# Altium footprint library P5采集核心_KKK.PcbLib: 34 footprints (part 1 of 3)
Each footprint in its own frame and in the unit in brackets; x right, y up, seen from the top. Pads: shape width x height; smd on the part's side, far side on the other; paste and mask are expansions set on the pad; w line width, h text height; cw(c..) or ccw(c..) is an arc to the next point about the centre after c.
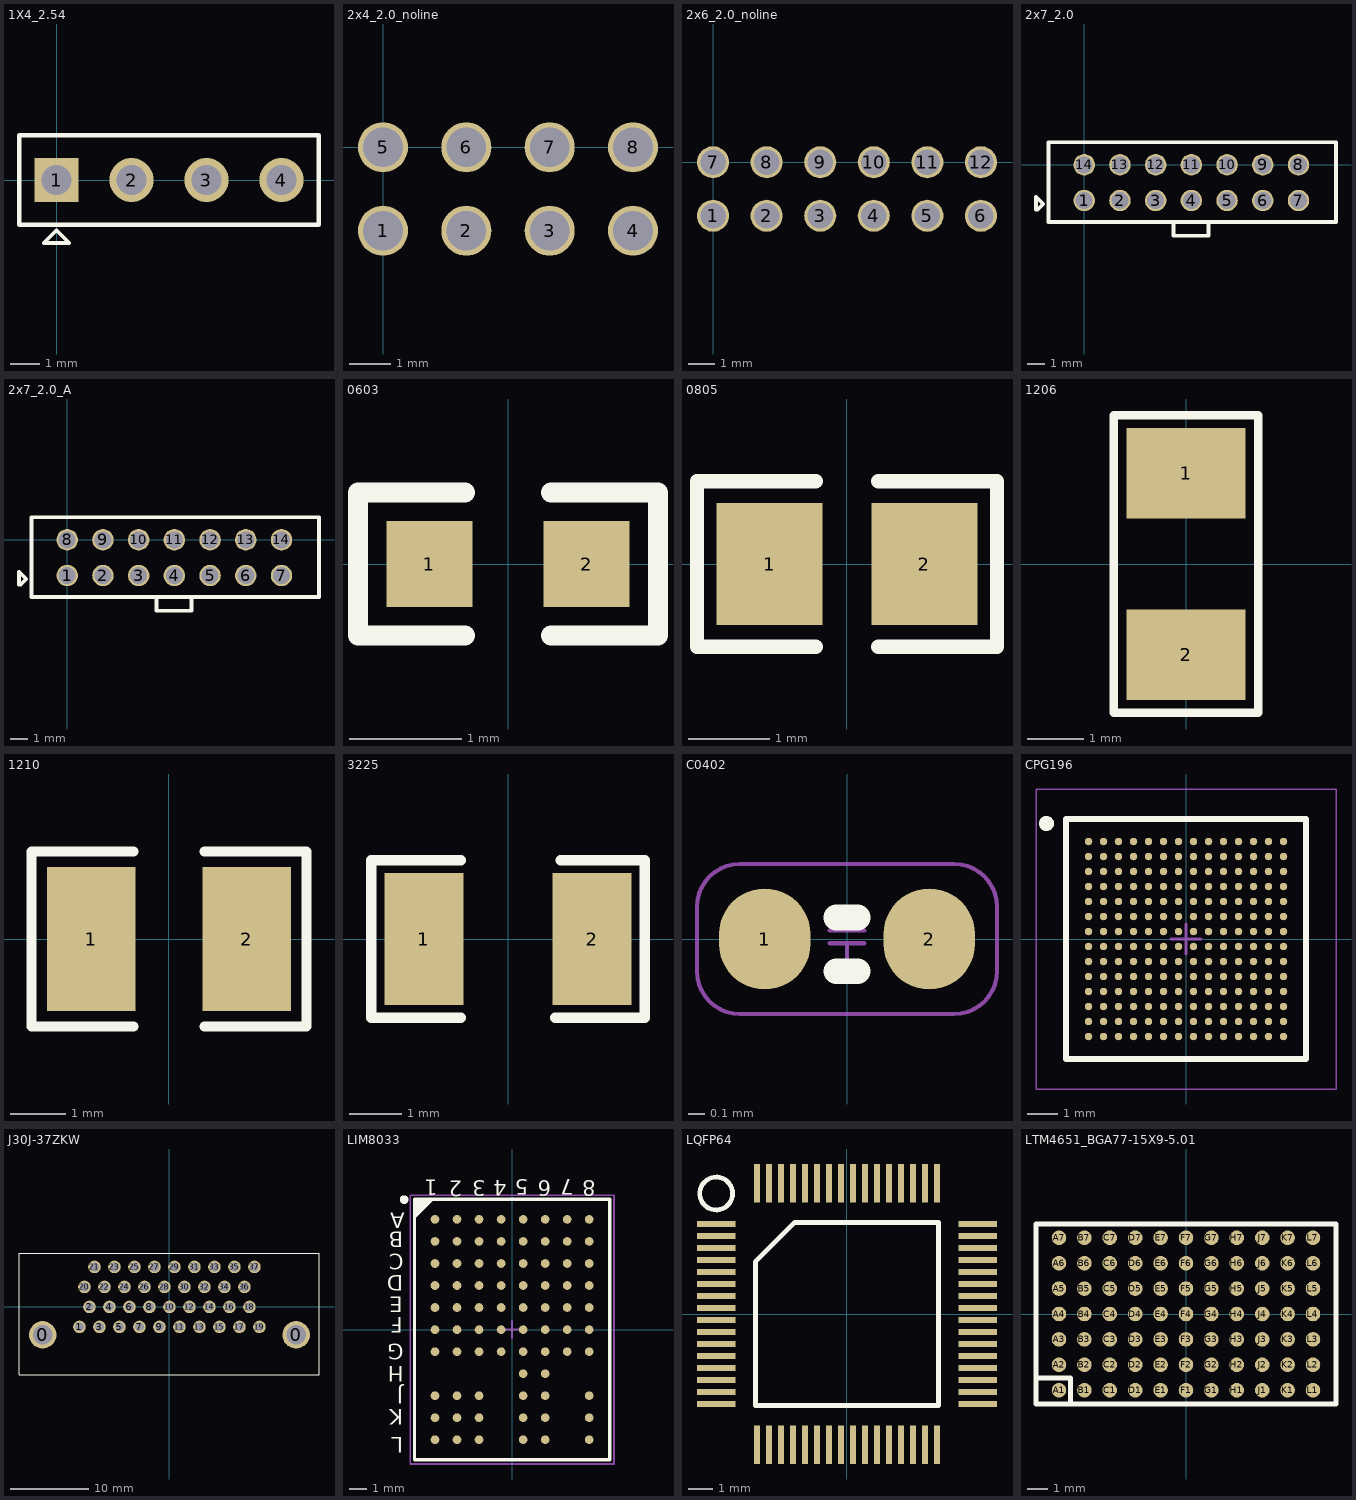
[diagram p0: the footprints below, top view; thin cyan lines are the x and y axes]

## 1X4_2.54 [mm]
height 3.2
pads (4):
  rect 1.5x1.5 hole 1: 1(0,0)
  round 1.5 hole 1: 2(2.54,0) 3(5.08,0) 4(7.62,0)
Top Overlay:
  lines w0.127: -0.432,-2.134 0.432,-2.134 0,-1.702 -0.432,-2.134
  lines w0.152: -1.27,-1.524 8.89,-1.524 8.89,1.524 -1.27,1.524 -1.27,-1.524

## 2x4_2.0_noline [mm]
pads (8):
  round 1.2 hole 0.95: 1(0,-2) 2(2,-2) 3(4,-2) 4(6,-2) 5(0,0) 6(2,0) 7(4,0) 8(6,0)

## 2x6_2.0_noline [mm]
pads (12):
  round 1.2 hole 0.95: 1(0,-2) 2(2,-2) 3(4,-2) 4(6,-2) 5(8,-2) 6(10,-2) 7(0,0) 8(2,0) 9(4,0) 10(6,0) 11(8,0) 12(10,0)

## 2x7_2.0 [mm]
height 3.2
pads (14):
  round 1.2 hole 0.95: 1(0,-2) 2(2,-2) 3(4,-2) 4(6,-2) 5(8,-2) 6(10,-2) 7(12,-2) 8(12,0) 9(10,0) 10(8,0) 11(6,0) 12(4,0) 13(2,0) 14(0,0)
Top Overlay:
  lines w0.2: -2.7,-1.8 -2.3,-2.2 -2.608,-2.508 ; 5,-3.219 5,-3.981 6.962,-3.981 6.962,-3.219
  lines w0.203: -2.7,-2.508 -2.7,-1.8 ; -2,-3.2 14.1,-3.2 14.1,1.27 -2,1.27 -2,-3.2

## 2x7_2.0_A [mm]
pads (14):
  round 1.2 hole 0.95: 1(0,-2) 2(2,-2) 3(4,-2) 4(6,-2) 5(8,-2) 6(10,-2) 7(12,-2) 8(0,0) 9(2,0) 10(4,0) 11(6,0) 12(8,0) 13(10,0) 14(12,0)
Top Overlay:
  lines w0.2: -2.7,-1.8 -2.3,-2.2 -2.608,-2.508 ; 5,-3.219 5,-3.981 6.962,-3.981 6.962,-3.219
  lines w0.203: -2.7,-2.508 -2.7,-1.8 ; -2,-3.2 -2,1.27 14.1,1.27 14.1,-3.2 -2,-3.2

## 0603 [mil]
pads (2):
  rect 30x30 smd: 1(-27.5,0) 2(27.5,0)
Top Overlay:
  lines w7: -15,-25 -52.5,-25 -52.5,25 -15,25 ; 15,-25 52.5,-25 52.5,25 15,25

## 0805 [mm]
pads (2):
  rect 1.3x1.5 smd: 1(-0.95,0) 2(0.95,0)
Top Overlay:
  lines w0.178: -0.381,-1.019 -1.841,-1.019 -1.841,1.019 -0.381,1.019 ; 0.381,-1.019 1.842,-1.019 1.842,1.019 0.381,1.019

## 1206 [mm]
height 3.2
pads (2):
  rect 2.1x1.6 smd: 1(0,1.6) 2(0,-1.6)
Top Overlay:
  lines w0.15: -1.275,-2.625 -1.275,2.225 -1.275,2.625 1.275,2.625 1.275,-2.625 -1.275,-2.625

## 1210 [mm]
pads (2):
  rect 1.6x2.6 smd: 1(-1.4,0) 2(1.4,0)
Top Overlay:
  lines w0.178: -0.635,-1.575 -2.476,-1.575 -2.476,1.575 -0.635,1.575 ; 0.635,-1.575 2.476,-1.575 2.476,1.575 0.635,1.575

## 3225 [mm]
height 3.2
pads (2):
  rect 1.5x2.5 smd: 1(-1.6,0) 2(1.6,0)
Top Overlay:
  lines w0.2: -0.9,-1.5 -2.6,-1.5 -2.6,1.5 -2.3,1.5 -0.9,1.5 ; 0.9,-1.5 2.6,-1.5 2.6,1.5 1,1.5

## C0402 [mm]
pads (2):
  oval 0.54x0.6 smd: 1(-0.487,0) 2(0.487,0)
Top Overlay:
  lines w0.152: -0.064,-0.191 0.064,-0.191 ; -0.064,0.127 0.064,0.127
Mechanical 8:
  lines w0.025: -0.102,-0.025 0.102,-0.025 ; -0.102,0.051 0.102,0.051 ; 0,-0.152 0,-0.025 ; 0,0.051 0,0.178 ; -0.889,-0.19 ccw(c-0.635,-0.191) -0.635,-0.445 0.635,-0.445 ccw(c0.635,-0.191) 0.889,-0.191 0.889,0.191 ccw(c0.635,0.191) 0.635,0.445 -0.635,0.445 ccw(c-0.635,0.191) -0.889,0.191 -0.889,-0.191

## CPG196 [mm] "BGA, 196-Leads, Body 8x8mm, Pitch 0.5mm"
height 1.1
pads (196):
  round 0.25 smd: A1(-3.25,3.25) A2(-2.75,3.25) A3(-2.25,3.25) A4(-1.75,3.25) A5(-1.25,3.25) A6(-0.75,3.25) A7(-0.25,3.25) A8(0.25,3.25) A9(0.75,3.25) A10(1.25,3.25) A11(1.75,3.25) A12(2.25,3.25) A13(2.75,3.25) A14(3.25,3.25) B1(-3.25,2.75) B2(-2.75,2.75) B3(-2.25,2.75) B4(-1.75,2.75) B5(-1.25,2.75) B6(-0.75,2.75) B7(-0.25,2.75) B8(0.25,2.75) B9(0.75,2.75) B10(1.25,2.75) B11(1.75,2.75) B12(2.25,2.75) B13(2.75,2.75) B14(3.25,2.75) C1(-3.25,2.25) C2(-2.75,2.25) C3(-2.25,2.25) C4(-1.75,2.25) C5(-1.25,2.25) C6(-0.75,2.25) C7(-0.25,2.25) C8(0.25,2.25) C9(0.75,2.25) C10(1.25,2.25) C11(1.75,2.25) C12(2.25,2.25) C13(2.75,2.25) C14(3.25,2.25) D1(-3.25,1.75) D2(-2.75,1.75) D3(-2.25,1.75) D4(-1.75,1.75) D5(-1.25,1.75) D6(-0.75,1.75) D7(-0.25,1.75) D8(0.25,1.75) D9(0.75,1.75) D10(1.25,1.75) D11(1.75,1.75) D12(2.25,1.75) D13(2.75,1.75) D14(3.25,1.75) E1(-3.25,1.25) E2(-2.75,1.25) E3(-2.25,1.25) E4(-1.75,1.25) E5(-1.25,1.25) E6(-0.75,1.25) E7(-0.25,1.25) E8(0.25,1.25) E9(0.75,1.25) E10(1.25,1.25) E11(1.75,1.25) E12(2.25,1.25) E13(2.75,1.25) E14(3.25,1.25) F1(-3.25,0.75) F2(-2.75,0.75) F3(-2.25,0.75) F4(-1.75,0.75) F5(-1.25,0.75) F6(-0.75,0.75) F7(-0.25,0.75) F8(0.25,0.75) F9(0.75,0.75) F10(1.25,0.75) F11(1.75,0.75) F12(2.25,0.75) F13(2.75,0.75) F14(3.25,0.75) G1(-3.25,0.25) G2(-2.75,0.25) G3(-2.25,0.25) G4(-1.75,0.25) G5(-1.25,0.25) G6(-0.75,0.25) G7(-0.25,0.25) G8(0.25,0.25) G9(0.75,0.25) G10(1.25,0.25) G11(1.75,0.25) G12(2.25,0.25) G13(2.75,0.25) G14(3.25,0.25) H1(-3.25,-0.25) H2(-2.75,-0.25) H3(-2.25,-0.25) H4(-1.75,-0.25) H5(-1.25,-0.25) H6(-0.75,-0.25) H7(-0.25,-0.25) H8(0.25,-0.25) H9(0.75,-0.25) H10(1.25,-0.25) H11(1.75,-0.25) H12(2.25,-0.25) H13(2.75,-0.25) H14(3.25,-0.25) J1(-3.25,-0.75) J2(-2.75,-0.75) J3(-2.25,-0.75) J4(-1.75,-0.75) J5(-1.25,-0.75) J6(-0.75,-0.75) J7(-0.25,-0.75) J8(0.25,-0.75) J9(0.75,-0.75) J10(1.25,-0.75) J11(1.75,-0.75) J12(2.25,-0.75) J13(2.75,-0.75) J14(3.25,-0.75) K1(-3.25,-1.25) K2(-2.75,-1.25) K3(-2.25,-1.25) K4(-1.75,-1.25) K5(-1.25,-1.25) K6(-0.75,-1.25) K7(-0.25,-1.25) K8(0.25,-1.25) K9(0.75,-1.25) K10(1.25,-1.25) K11(1.75,-1.25) K12(2.25,-1.25) K13(2.75,-1.25) K14(3.25,-1.25) L1(-3.25,-1.75) L2(-2.75,-1.75) L3(-2.25,-1.75) L4(-1.75,-1.75) L5(-1.25,-1.75) L6(-0.75,-1.75) L7(-0.25,-1.75) L8(0.25,-1.75) L9(0.75,-1.75) L10(1.25,-1.75) L11(1.75,-1.75) L12(2.25,-1.75) L13(2.75,-1.75) L14(3.25,-1.75) M1(-3.25,-2.25) M2(-2.75,-2.25) M3(-2.25,-2.25) M4(-1.75,-2.25) M5(-1.25,-2.25) M6(-0.75,-2.25) M7(-0.25,-2.25) M8(0.25,-2.25) M9(0.75,-2.25) M10(1.25,-2.25) M11(1.75,-2.25) M12(2.25,-2.25) M13(2.75,-2.25) M14(3.25,-2.25) N1(-3.25,-2.75) N2(-2.75,-2.75) N3(-2.25,-2.75) N4(-1.75,-2.75) N5(-1.25,-2.75) N6(-0.75,-2.75) N7(-0.25,-2.75) N8(0.25,-2.75) N9(0.75,-2.75) N10(1.25,-2.75) N11(1.75,-2.75) N12(2.25,-2.75) N13(2.75,-2.75) N14(3.25,-2.75) P1(-3.25,-3.25) P2(-2.75,-3.25) P3(-2.25,-3.25) P4(-1.75,-3.25) P5(-1.25,-3.25) P6(-0.75,-3.25) P7(-0.25,-3.25) P8(0.25,-3.25) P9(0.75,-3.25) P10(1.25,-3.25) P11(1.75,-3.25) P12(2.25,-3.25) P13(2.75,-3.25) P14(3.25,-3.25)
Top Overlay:
  circle w0.25: c-4.65,3.85 r0.125
  lines w0.2: -4,-4 4,-4 4,4 -4,4 -4,-4
Mechanical 13:
  lines w0.1: -4,-4 4,-4 4,4 -4,4 -4,-4
Mechanical 15:
  lines w0.05: -5,-5 5,-5 5,5 -5,5 -5,-5
  lines w0.1: -0.5,0 0.5,0 ; 0,-0.5 0,0.5
3D body: height 1.1, standoff 0.15, extent -4,-4 4,4

## J30J-37ZKW [mm]
pads (39):
  round 3.5 hole 2.5: 0(-16.1,-3.54) 0(16.1,-3.54)
  round 1.6 hole 1.1: 1(-11.43,-2.54) 2(-10.16,0) 3(-8.89,-2.54) 4(-7.62,0) 5(-6.35,-2.54) 6(-5.08,0) 7(-3.81,-2.54) 8(-2.54,0) 9(-1.27,-2.54) 10(0,0) 11(1.27,-2.54) 12(2.54,0) 13(3.81,-2.54) 14(5.08,0) 15(6.35,-2.54) 16(7.62,0) 17(8.89,-2.54) 18(10.16,0) 19(11.43,-2.54) 20(-10.795,2.54) 21(-9.525,5.08) 22(-8.255,2.54) 23(-6.985,5.08) 24(-5.715,2.54) 25(-4.445,5.08) 26(-3.175,2.54) 27(-1.905,5.08) 28(-0.635,2.54) 29(0.635,5.08) 30(1.905,2.54) 31(3.175,5.08) 32(4.445,2.54) 33(5.715,5.08) 34(6.985,2.54) 35(8.255,5.08) 36(9.525,2.54) 37(10.795,5.08)
Top Overlay:
  lines w0.127: -19.115,-8.6 19,-8.6 19,6.8 -19.115,6.8 -19.115,-8.6

## LIM8033 [mm]
height 3.2
pads (76):
  round 0.5 smd: A1(-4.445,6.35) A2(-3.175,6.35) A3(-1.905,6.35) A4(-0.635,6.35) A5(0.635,6.35) A6(1.905,6.35) A7(3.175,6.35) A8(4.445,6.35) B1(-4.445,5.08) B2(-3.175,5.08) B3(-1.905,5.08) B4(-0.635,5.08) B5(0.635,5.08) B6(1.905,5.08) B7(3.175,5.08) B8(4.445,5.08) C1(-4.445,3.81) C2(-3.175,3.81) C3(-1.905,3.81) C4(-0.635,3.81) C5(0.635,3.81) C6(1.905,3.81) C7(3.175,3.81) C8(4.445,3.81) D1(-4.445,2.54) D2(-3.175,2.54) D3(-1.905,2.54) D4(-0.635,2.54) D5(0.635,2.54) D6(1.905,2.54) D7(3.175,2.54) D8(4.445,2.54) E1(-4.445,1.27) E2(-3.175,1.27) E3(-1.905,1.27) E4(-0.635,1.27) E5(0.635,1.27) E6(1.905,1.27) E7(3.175,1.27) E8(4.445,1.27) F1(-4.445,0) F2(-3.175,0) F3(-1.905,0) F4(-0.635,0) F5(0.635,0) F6(1.905,0) F7(3.175,0) F8(4.445,0) G1(-4.445,-1.27) G2(-3.175,-1.27) G3(-1.905,-1.27) G4(-0.635,-1.27) G5(0.635,-1.27) G6(1.905,-1.27) G7(3.175,-1.27) G8(4.445,-1.27) H5(0.635,-2.54) H6(1.905,-2.54) J1(-4.445,-3.81) J2(-3.175,-3.81) J3(-1.905,-3.81) J5(0.635,-3.81) J6(1.905,-3.81) J8(4.445,-3.81) K1(-4.445,-5.08) K2(-3.175,-5.08) K3(-1.905,-5.08) K5(0.635,-5.08) K6(1.905,-5.08) K8(4.445,-5.08) L1(-4.445,-6.35) L2(-3.175,-6.35) L3(-1.905,-6.35) L5(0.635,-6.35) L6(1.905,-6.35) L8(4.445,-6.35)
Top Overlay:
  circle w0.25: c-6.221,7.493 r0.125
  region: -4.625,7.5 -5.625,6.5 -5.625,7.5
  lines w0.2: -5.625,6.5 -4.625,7.5 ; -5.625,-7.5 5.625,-7.5 5.625,7.5 -5.625,7.5 -5.625,-7.5
  text "A" at -6.184,6.733 h0.89
  text "B" at -6.263,5.635 h0.89
  text "C" at -6.231,4.364 h0.89
  text "D" at -6.278,3.14 h0.89
  text "E" at -6.31,1.9 h0.89
  text "F" at -6.31,0.708 h0.89
  text "G" at -6.247,-0.814 h0.89
  text "H" at -6.231,-2.101 h0.89
  text "J" at -6.263,-3.387 h0.89
  text "K" at -6.278,-4.596 h0.89
  text "L" at -6.278,-6.196 h0.89
  text "1" at -4.285,8.639 h0.89
  text "2" at -2.886,8.588 h0.89
  text "3" at -1.521,8.622 h0.89
  text "4" at -0.308,8.622 h0.89
  text "5" at 0.923,8.656 h0.89
  text "6" at 2.254,8.622 h0.89
  text "7" at 3.569,8.656 h0.89
  text "8" at 4.816,8.622 h0.89
Mechanical 13:
  lines w0.1: -5.625,-7.5 5.625,-7.5 5.625,7.5 -5.625,7.5 -5.625,-7.5
Mechanical 15:
  lines w0.1: -0.5,0 0.5,0 ; 0,-0.5 0,0.5 ; -5.875,-7.75 5.875,-7.75 5.875,7.75 -5.875,7.75 -5.875,-7.75
3D body: height 4.92, standoff 0.6, extent -5.625,-7.5 5.625,7.5

## LQFP64 [mm]
height 3.2
pads (64):
  rect 1.6x0.254 smd: 1(-5.45,3.75) 2(-5.45,3.25) 3(-5.45,2.75) 4(-5.45,2.25) 5(-5.45,1.75) 6(-5.45,1.25) 7(-5.45,0.75) 8(-5.45,0.25) 9(-5.45,-0.25) 10(-5.45,-0.75) 11(-5.45,-1.25) 12(-5.45,-1.75) 13(-5.45,-2.25) 14(-5.45,-2.75) 15(-5.45,-3.25) 16(-5.45,-3.75) 33(5.45,-3.75) 34(5.45,-3.25) 35(5.45,-2.75) 36(5.45,-2.25) 37(5.45,-1.75) 38(5.45,-1.25) 39(5.45,-0.75) 40(5.45,-0.25) 41(5.45,0.25) 42(5.45,0.75) 43(5.45,1.25) 44(5.45,1.75) 45(5.45,2.25) 46(5.45,2.75) 47(5.45,3.25) 48(5.45,3.75)
  rect 0.254x1.6 smd: 17(-3.75,-5.45) 18(-3.25,-5.45) 19(-2.75,-5.45) 20(-2.25,-5.45) 21(-1.75,-5.45) 22(-1.25,-5.45) 23(-0.75,-5.45) 24(-0.25,-5.45) 25(0.25,-5.45) 26(0.75,-5.45) 27(1.25,-5.45) 28(1.75,-5.45) 29(2.25,-5.45) 30(2.75,-5.45) 31(3.25,-5.45) 32(3.75,-5.45) 49(3.75,5.45) 50(3.25,5.45) 51(2.75,5.45) 52(2.25,5.45) 53(1.75,5.45) 54(1.25,5.45) 55(0.75,5.45) 56(0.25,5.45) 57(-0.25,5.45) 58(-0.75,5.45) 59(-1.25,5.45) 60(-1.75,5.45) 61(-2.25,5.45) 62(-2.75,5.45) 63(-3.25,5.45) 64(-3.75,5.45)
Top Overlay:
  circle w0.2: c-5.45,5.02 r0.684
  lines w0.2: -3.815,-3.815 3.815,-3.815 3.815,3.815 -2.18,3.815 -3.815,2.18 -3.815,-3.815

## LTM4651_BGA77-15X9-5.01 [mm]
height 3.2
pads (77):
  round 0.73 smd: A1(-6.35,-3.81) A2(-6.35,-2.54) A3(-6.35,-1.27) A4(-6.35,0) A5(-6.35,1.27) A6(-6.35,2.54) A7(-6.35,3.81) B1(-5.08,-3.81) B2(-5.08,-2.54) B3(-5.08,-1.27) B4(-5.08,0) B5(-5.08,1.27) B6(-5.08,2.54) B7(-5.08,3.81) C1(-3.81,-3.81) C2(-3.81,-2.54) C3(-3.81,-1.27) C4(-3.81,0) C5(-3.81,1.27) C6(-3.81,2.54) C7(-3.81,3.81) D1(-2.54,-3.81) D2(-2.54,-2.54) D3(-2.54,-1.27) D4(-2.54,0) D5(-2.54,1.27) D6(-2.54,2.54) D7(-2.54,3.81) E1(-1.27,-3.81) E2(-1.27,-2.54) E3(-1.27,-1.27) E4(-1.27,0) E5(-1.27,1.27) E6(-1.27,2.54) E7(-1.27,3.81) F1(0,-3.81) F2(0,-2.54) F3(0,-1.27) F4(0,0) F5(0,1.27) F6(0,2.54) F7(0,3.81) G1(1.27,-3.81) G2(1.27,-2.54) G3(1.27,-1.27) G4(1.27,0) G5(1.27,1.27) G6(1.27,2.54) G7(1.27,3.81) H1(2.54,-3.81) H2(2.54,-2.54) H3(2.54,-1.27) H4(2.54,0) H5(2.54,1.27) H6(2.54,2.54) H7(2.54,3.81) J1(3.81,-3.81) J2(3.81,-2.54) J3(3.81,-1.27) J4(3.81,0) J5(3.81,1.27) J6(3.81,2.54) J7(3.81,3.81) K1(5.08,-3.81) K2(5.08,-2.54) K3(5.08,-1.27) K4(5.08,0) K5(5.08,1.27) K6(5.08,2.54) K7(5.08,3.81) L1(6.35,-3.81) L2(6.35,-2.54) L3(6.35,-1.27) L4(6.35,0) L5(6.35,1.27) L6(6.35,2.54) L7(6.35,3.81)
Top Overlay:
  lines w0.254: -7.493,-3.2 -5.765,-3.2 -5.765,-4.4 ; -7.5,-4.5 7.5,-4.5 7.5,4.5 -7.5,4.5 -7.5,-4.5